# Altium footprint library MF_Connectors.PCBLIB: 52 footprints (part 4 of 4)
Each footprint in its own frame and in the unit in brackets; x right, y up, seen from the top. Pads: shape width x height; smd on the part's side, far side on the other; paste and mask are expansions set on the pad; w line width, h text height; cw(c..) or ccw(c..) is an arc to the next point about the centre after c.
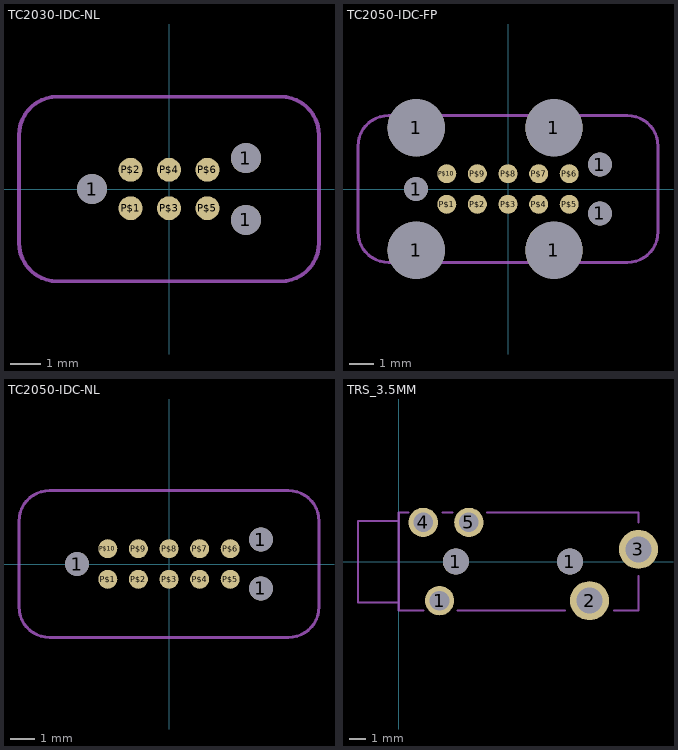
[diagram p3: the footprints below, top view; thin cyan lines are the x and y axes]

## TC2030-IDC-NL [mil]
pads (9):
  round 39 hole 39 unplated: 1(-100,0) 1(100,-40) 1(100,40)
  rrect100% 31x31 smd paste+0: P$1(-50,-25) P$2(-50,25) P$3(0,-25) P$4(0,25) P$5(50,-25) P$6(50,25)
Mechanical 22:
  lines w5: -195,-70 ccw(c-145,-70) -145,-120 145,-120 ccw(c145,-70) 195,-70 195,70 ccw(c145,70) 145,120 -145,120 ccw(c-145,70) -195,70 -195,-70

## TC2050-IDC-FP [mil]
pads (17):
  round 93.5 hole 93.5 unplated: 1(-150,-100) 1(-150,100) 1(75,-100) 1(75,100)
  round 39 hole 39 unplated: 1(-150,0) 1(150,-40) 1(150,40)
  rrect100% 31x31 smd paste+0: P$1(-100,-25) P$2(-50,-25) P$3(0,-25) P$4(50,-25) P$5(100,-25) P$6(100,25) P$7(50,25) P$8(0,25) P$9(-50,25) P$10(-100,25)
Mechanical 22:
  lines w5: -245,-70 ccw(c-195,-70) -195,-120 195,-120 ccw(c195,-70) 245,-70 245,70 ccw(c195,70) 195,120 -195,120 ccw(c-195,70) -245,70 -245,-70

## TC2050-IDC-NL [mil]
pads (13):
  round 39 hole 39 unplated: 1(-150,0) 1(150,-40) 1(150,40)
  rrect100% 31x31 smd paste+0: P$1(-100,-25) P$2(-50,-25) P$3(0,-25) P$4(50,-25) P$5(100,-25) P$6(100,25) P$7(50,25) P$8(0,25) P$9(-50,25) P$10(-100,25)
Mechanical 22:
  lines w5: -245,-70 ccw(c-195,-70) -195,-120 195,-120 ccw(c195,-70) 245,-70 245,70 ccw(c195,70) 195,120 -195,120 ccw(c-195,70) -245,70 -245,-70

## TRS_3.5MM [mm]
pads (7):
  round 1.8 / inner round 1.524 / far side round 1.8 hole 1.2: 1(2.5,-2.4) 4(1.5,2.4) 5(4.3,2.4)
  round 1.6 hole 1.6 unplated: 1(3.5,0) 1(10.5,0)
  round 2.4 / inner round 1.524 / far side round 2.4 hole 1.6: 2(11.7,-2.4) 3(14.7,0.75)
Assembly Top:
  lines w0.127: 0,-2.5 -2.5,-2.5 -2.5,2.5 0,2.5
Mechanical 22:
  lines w0.127: 0.6,3 0,3 0,-3 1.5,-3 ; 2.7,3 3.3,3 ; 3.6,-3 10.2,-3 ; 5.4,3 14.7,3 14.7,2.4 ; 13.2,-3 14.7,-3 14.7,-0.9